# Altium schematic symbol library Valve.SchLib: 24 symbols
Pins are listed as number, name and electrical type; pins without a type are passive.

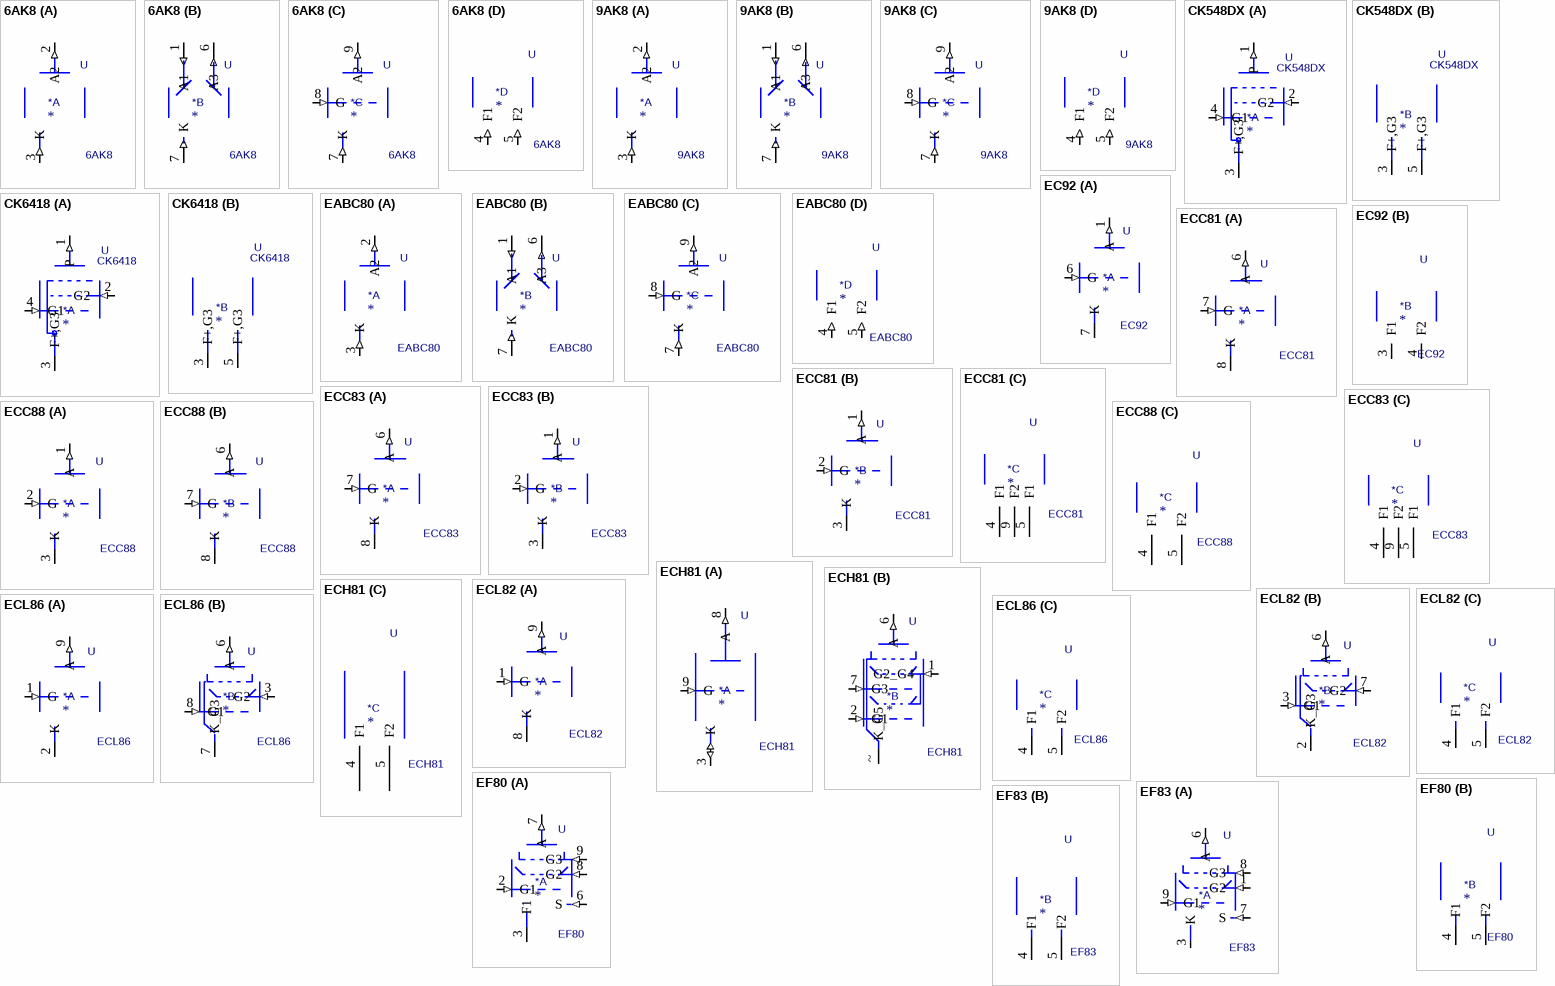
[diagram p0: symbols 6AK8 to EF83]

## 6AK8
designator *  value 6AK8  Reference: U
triple diode triode; ki_keywords: diode triode valve; ki_fp_filters: VALVE*NOVAL*P*; Footprint: Valve:Valve_Noval_P; Datasheet: https://frank.pocnet.net/sheets/082/e/EABC80.pdf; Description_: triple diode triode
part A pins: 2 A2 (out), 3 K (in)
part B pins: 1 A1 (in), 6 A3 (out), 7 K (in)
part C pins: 7 K (in), 8 G (in), 9 A2 (out)
part D pins: 4 F1 (in), 5 F2 (in)

## 9AK8
designator *  value 9AK8  Reference: U
triple diode triode; ki_keywords: diode triode valve; ki_fp_filters: VALVE*NOVAL*P*; Footprint: Valve:Valve_Noval_P; Datasheet: https://frank.pocnet.net/sheets/082/e/EABC80.pdf; Description_: triple diode triode
part A pins: 2 A2 (out), 3 K (in)
part B pins: 1 A1 (in), 6 A3 (out), 7 K (in)
part C pins: 7 K (in), 8 G (in), 9 A2 (out)
part D pins: 4 F1 (in), 5 F2 (in)

## CK548DX
designator *  value CK548DX  Reference: U
Subminiature Pentode; ki_keywords: subminiature pentode valve; ki_fp_filters: VALVE*MINI*PENTODE*LINEAR*; Footprint: Valve:Valve_Mini_Pentode_Linear; Description_: Subminiature Pentode
part A pins: 1 P (out), 2 G2 (in), 3 F+,G3 (power), 4 G1 (in)
part B pins: 3 F+,G3 (power), 5 F+,G3 (power)

## CK6418
designator *  value CK6418  Reference: U
Subminiature Pentode; ki_keywords: subminiature pentode valve; ki_fp_filters: VALVE*MINI*PENTODE*LINEAR*; Footprint: Valve:Valve_Mini_Pentode_Linear; Datasheet: https://frank.pocnet.net/sheets/127/6/6418.pdf; Description_: Subminiature Pentode
part A pins: 1 P (out), 2 G2 (in), 3 F+,G3 (power), 4 G1 (in)
part B pins: 3 F+,G3 (power), 5 F+,G3 (power)

## EABC80
designator *  value EABC80  Reference: U
triple diode triode; ki_keywords: diode triode valve; ki_fp_filters: VALVE*NOVAL*P*; Footprint: Valve:Valve_Noval_P; Datasheet: https://frank.pocnet.net/sheets/082/e/EABC80.pdf; Description_: triple diode triode
part A pins: 2 A2 (out), 3 K (in)
part B pins: 1 A1 (in), 6 A3 (out), 7 K (in)
part C pins: 7 K (in), 8 G (in), 9 A2 (out)
part D pins: 4 F1 (in), 5 F2 (in)

## EC92
designator *  value EC92  Reference: U
single triode; ki_keywords: triode valve; ki_fp_filters: VALVE*MINI*P*; Footprint: Valve:Valve_Mini_P; Datasheet: http://www.r-type.org/pdfs/ec92.pdf; Description_: single triode
part A pins: 1 A (out), 6 G (in), 7 K (io)
part B pins: 3 F1 (power), 4 F2 (power)

## ECC81
designator *  value ECC81  Reference: U
double triode; ki_keywords: triode valve; ki_fp_filters: VALVE*NOVAL*P*; Footprint: Valve:Valve_Noval_P; Datasheet: http://www.r-type.org/pdfs/ecc81.pdf; Description_: double triode
part A pins: 6 A (out), 7 G (in), 8 K (io)
part B pins: 1 A (out), 2 G (in), 3 K (io)
part C pins: 4 F1 (power), 5 F1 (power), 9 F2 (power)

## ECC83
designator *  value ECC83  Reference: U
double triode; ki_keywords: triode valve; ki_fp_filters: VALVE*NOVAL*P*; Footprint: Valve:Valve_Noval_P; Datasheet: http://www.r-type.org/pdfs/ecc83.pdf; Description_: double triode
part A pins: 6 A (out), 7 G (in), 8 K (io)
part B pins: 1 A (out), 2 G (in), 3 K (io)
part C pins: 4 F1 (power), 5 F1 (power), 9 F2 (power)

## ECC88
designator *  value ECC88  Reference: U
double triode, low-noise; ki_keywords: triode valve; ki_fp_filters: VALVE*NOVAL*P*; Footprint: Valve:Valve_Noval_P; Datasheet: http://www.r-type.org/pdfs/ecc88.pdf; Description_: double triode, low-noise
part A pins: 1 A (out), 2 G (in), 3 K (io)
part B pins: 6 A (out), 7 G (in), 8 K (io)
part C pins: 4 F1 (power), 5 F2 (power)

## ECH81
designator *  value ECH81  Reference: U
triode heptode; ki_keywords: triode heptode valve; ki_fp_filters: VALVE*NOVAL*P*; Footprint: Valve:Valve_Noval_P; Datasheet: http://www.r-type.org/pdfs/ech81.pdf; Description_: triode heptode
part A pins: 3 K (io), 8 A (out), 9 G (in)
part B pins: 1 G2_G4 (in), 2 G1 (in), 6 A (out), 7 G3 (in), ~ K_G5 (io)
part C pins: 4 F1 (power), 5 F2 (power)

## ECL82
designator *  value ECL82  Reference: U
triode pentode; ki_keywords: triode pentode valve; ki_fp_filters: Valve*Noval*P*; Footprint: Valve:Valve_Noval_P; Datasheet: http://www.r-type.org/pdfs/ecl82.pdf; Description_: triode pentode
part A pins: 1 G (in), 8 K (io), 9 A (out)
part B pins: 2 K_G3 (io), 3 G1 (in), 6 A (out), 7 G2 (in)
part C pins: 4 F1 (power), 5 F2 (power)

## ECL86
designator *  value ECL86  Reference: U
triode pentode; ki_keywords: triode pentode valve; ki_fp_filters: Valve*Noval*P*; Footprint: Valve:Valve_Noval_P; Datasheet: http://www.r-type.org/pdfs/ecl86.pdf; Description_: triode pentode
part A pins: 1 G (in), 2 K (io), 9 A (out)
part B pins: 3 G2 (in), 6 A (out), 7 K_G3 (io), 8 G1 (in)
part C pins: 4 F1 (power), 5 F2 (power)

## EF80
designator *  value EF80  Reference: U
pentode; ki_keywords: pentode valve; ki_fp_filters: VALVE*NOVAL*P*; Footprint: Valve:Valve_Noval_P; Datasheet: http://www.r-type.org/pdfs/ef80.pdf; Description_: pentode
part A pins: 2 G1 (in), 3 F1 (power), 6 S (in), 7 A (out), 8 G2 (in), 9 G3 (in)
part B pins: 4 F1 (power), 5 F2 (power)

## EF83
designator *  value EF83  Reference: U
pentode; ki_keywords: pentode valve; ki_fp_filters: VALVE*NOVAL*P*; Footprint: Valve:Valve_Noval_P; Datasheet: http://www.r-type.org/pdfs/ef83.pdf; Description_: pentode
part A pins: 1 G2 (in), 3 K (io), 6 A (out), 7 S (in), 8 G3 (in), 9 G1 (in)
part B pins: 4 F1 (power), 5 F2 (power)

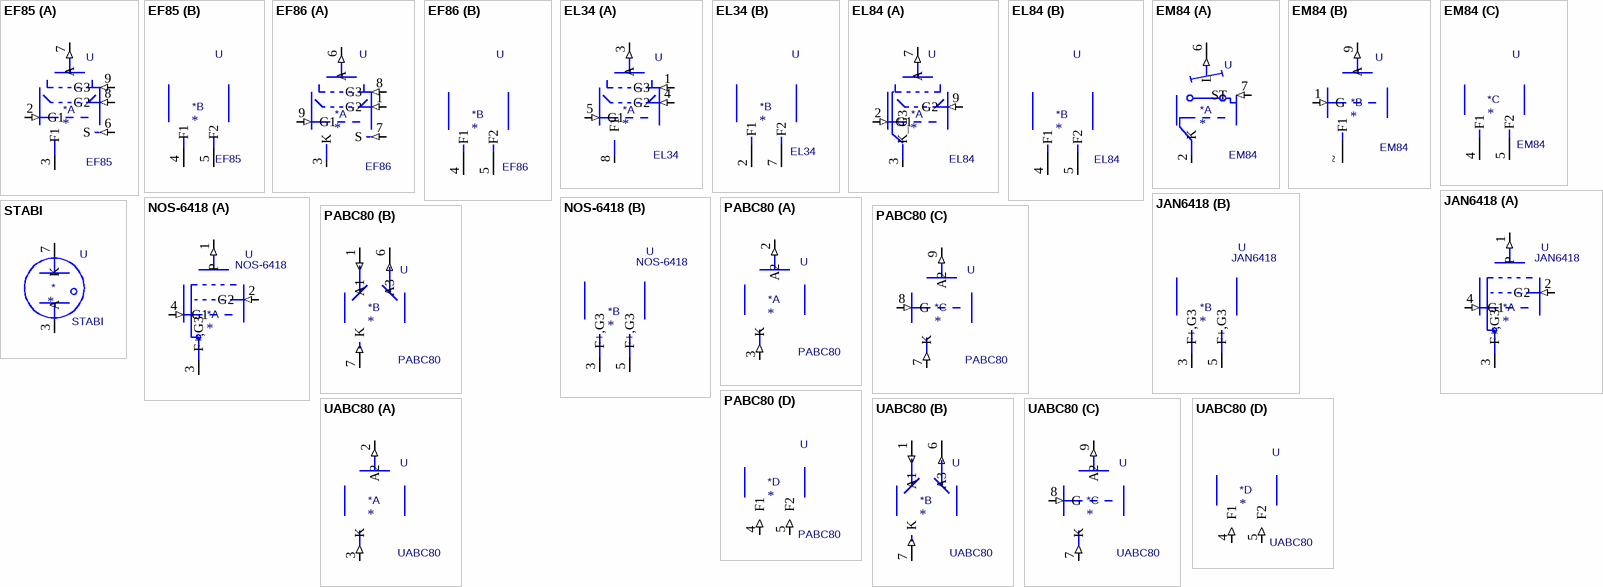
[diagram p1: symbols EF85 to UABC80]

## EF85
designator *  value EF85  Reference: U
pentode; ki_keywords: pentode valve; ki_fp_filters: VALVE*NOVAL*P*; Footprint: Valve:Valve_Noval_P; Description_: pentode
part A pins: 2 G1 (in), 3 F1 (power), 6 S (in), 7 A (out), 8 G2 (in), 9 G3 (in)
part B pins: 4 F1 (power), 5 F2 (power)

## EF86
designator *  value EF86  Reference: U
pentode; ki_keywords: pentode valve; ki_fp_filters: VALVE*NOVAL*P*; Footprint: Valve:Valve_Noval_P; Description_: pentode
part A pins: 1 G2 (in), 3 K (io), 6 A (out), 7 S (in), 8 G3 (in), 9 G1 (in)
part B pins: 4 F1 (power), 5 F2 (power)

## EL34
designator *  value EL34  Reference: U
pentode, 25W; ki_keywords: pentode valve; ki_fp_filters: VALVE*OCTAL*; Footprint: Valve:Valve_Octal; Datasheet: http://www.r-type.org/pdfs/el34.pdf; Description_: pentode, 25W
part A pins: 1 G3 (in), 3 A (out), 4 G2 (in), 5 G1 (in), 8 F1 (power)
part B pins: 2 F1 (power), 7 F2 (power)

## EL84
designator *  value EL84  Reference: U
pentode, 12W; ki_keywords: pentode valve; ki_fp_filters: VALVE*NOVAL*P*; Footprint: Valve:Valve_Noval_P; Datasheet: http://www.r-type.org/pdfs/el84.pdf; Description_: pentode, 12W
part A pins: 2 G1 (in), 3 K_G3 (io), 7 A (out), 9 G2 (in)
part B pins: 4 F1 (power), 5 F2 (power)

## EM84
designator *  value EM84  Reference: U
indicator tube "magic eye"; ki_keywords: indicator tube valve magic eye; ki_fp_filters: VALVE*NOVAL*P*; Footprint: Valve:Valve_Noval_P; Datasheet: http://www.r-type.org/pdfs/em84.pdf; Description_: indicator tube "magic eye"
part A pins: 2 K (io), 6 L (out), 7 ST (in)
part B pins: 1 G (in), 9 A (out), ~ F1 (power)
part C pins: 4 F1 (power), 5 F2 (power)

## JAN6418
designator *  value JAN6418  Reference: U
Subminiature Pentode; ki_keywords: subminiature pentode valve; ki_fp_filters: VALVE*MINI*PENTODE*LINEAR*; Footprint: Valve:Valve_Mini_Pentode_Linear; Datasheet: https://frank.pocnet.net/sheets/127/6/6418.pdf; Description_: Subminiature Pentode
part A pins: 1 P (out), 2 G2 (in), 3 F+,G3 (power), 4 G1 (in)
part B pins: 3 F+,G3 (power), 5 F+,G3 (power)

## NOS-6418
designator *  value NOS-6418  Reference: U
Subminiature Pentode; ki_keywords: subminiature pentode valve; ki_fp_filters: VALVE*MINI*PENTODE*LINEAR*; Footprint: Valve:Valve_Mini_Pentode_Linear; Datasheet: https://frank.pocnet.net/sheets/127/6/6418.pdf; Description_: Subminiature Pentode
part A pins: 1 P (out), 2 G2 (in), 3 F+,G3 (power), 4 G1 (in)
part B pins: 3 F+,G3 (power), 5 F+,G3 (power)

## PABC80
designator *  value PABC80  Reference: U
triple diode triode; ki_keywords: diode triode valve; ki_fp_filters: VALVE*NOVAL*P*; Footprint: Valve:Valve_Noval_P; Datasheet: https://frank.pocnet.net/sheets/082/e/EABC80.pdf; Description_: triple diode triode
part A pins: 2 A2 (out), 3 K (in)
part B pins: 1 A1 (in), 6 A3 (out), 7 K (in)
part C pins: 7 K (in), 8 G (in), 9 A2 (out)
part D pins: 4 F1 (in), 5 F2 (in)

## STABI
designator *  value STABI  Reference: U
ki_fp_filters: VALVE*GLIMM*; Footprint: Valve:Valve_Glimm
pins: 3 A, 7 K

## UABC80
designator *  value UABC80  Reference: U
triple diode triode; ki_keywords: diode triode valve; ki_fp_filters: VALVE*NOVAL*P*; Footprint: Valve:Valve_Noval_P; Datasheet: https://frank.pocnet.net/sheets/082/e/EABC80.pdf; Description_: triple diode triode
part A pins: 2 A2 (out), 3 K (in)
part B pins: 1 A1 (in), 6 A3 (out), 7 K (in)
part C pins: 7 K (in), 8 G (in), 9 A2 (out)
part D pins: 4 F1 (in), 5 F2 (in)